# EAGLE library part 435151014824 (library WS-TASV)
WS-TASV SMT Tact Switch 3.0 x 2.6 mm with ground terminal MATERIAL PROPERTIES Cover Material Stainless Steel PROPERTIES Actuator Material LCP Actuator Flammability Rating UL94 V-0 Actuator Color White;​ Salmon;​ Black Frame Material LCP Frame Flammability Rating UL94 V-0 Frame Color Black Contact Material Stainless Steel Contact Plating Silver Terminal Material Copper Alloy Terminal Plating Silver VR 12 V (DC) Contact Resistance Initial 100 mΩ Contact Resistance After Life Test 2 Ω RISO 100 MΩ Withstanding Voltage 250 V (AC) Washable No Qty. 9500 GENERAL INFORMATION Operating Temperature -40 up to +85 °C PACKAGING PROPERTIES Packaging Tape and Reel <https://www.we-online.com/catalog/media/o158914v209%20WS-TASV-4351x10148xx_a.jpg> Details see: https://katalog.we-online.com/en/em/WS_TASV_SMT_TACT_SWITCH_3_x_2_6 Updated by Ella Wu 2020-11-18 2020(C) Wurth Elektronik
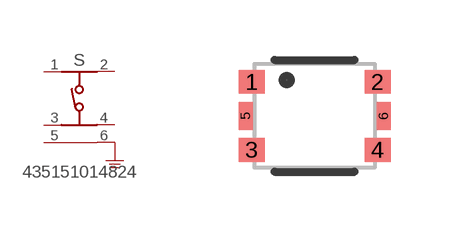
[diagram p10: symbol with the pads of 435151014824; footprint 435151014824]

Designator prefix S

## 435151014824 (DATASHEET-URL: https://www.we-online.com/redexpert/spec/435151014824 ?ae; HEIGHT: 1.4mm; OPERATION-FORCE: 240g; PART-NUMBER: 435151014824; QTY: 9500; VALUE: 435151014824)  [435151014824]
1  1  pas
2  2  pas
3  3  pas
4  4  pas
5  5  pas
6  6  pas

## Footprint 435151014824 (pad centres in mm)
WS-TASV SMT Tact Switch 3.0 x 2.6 mm with ground terminal
smd 0.65 x 0.6: 1 -1.575,0.85; 2 1.575,0.85; 3 -1.575,-0.85; 4 1.575,-0.85
smd 0.35 x 0.7: 5 -1.725,0; 6 1.725,0